# EAGLE library part 5103308-1 (library TSAR_Controller)
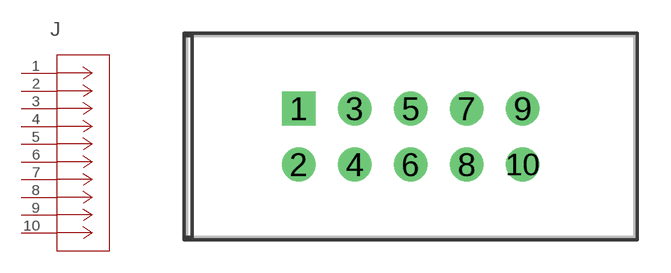
[diagram p3: symbol with the pads of CON10_2X5_S4; footprint CON10_2X5_S4]

Designator prefix J

## 5103308-1 (BUILT_BY: EMA_UL_Team; MANUFACTURER_PART_NUMBER: 5103308-1; VENDOR: TE Connectivity)  [CON10_2X5_S4]
1  1  pas
2  2  pas
3  3  pas
4  4  pas
5  5  pas
6  6  pas
7  7  pas
8  8  pas
9  9  pas
10  10  pas

## Footprint CON10_2X5_S4 (pad centres in mm)
drill 0.965 pad 1.524 square: 1 -10.16,2.54
drill 0.965 pad 1.524: 2 -10.16,0; 3 -7.62,2.54; 4 -7.62,0; 5 -5.08,2.54; 6 -5.08,0; 7 -2.54,2.54; 8 -2.54,0; 9 0,2.54; 10 0,0